# Altium integrated library 0402.IntLib: 2 symbols
Pins are listed as number, name and electrical type; pins without a type are passive.

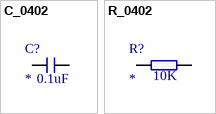
[diagram p0: symbols C_0402 to R_0402]

## C_0402
designator C?  value 0.1uF
电容
footprint C_0402
pins: 1, 2

## R_0402
designator R?  value 10K
电阻
footprint R_0402
pins: 1, 2